# Altium schematic symbol library MCP1501_SOT-23.SchLib: 1 symbol
Pins are listed as number, name and electrical type; pins without a type are passive.

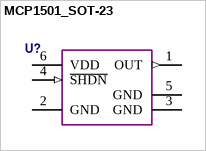
[diagram p0: symbol MCP1501_SOT-23]

## MCP1501_SOT-23
designator U?  (value not drawn)
2,5V Voltage References Precision, Buffered Voltage Reference
pins: 1 OUT (out), 2 GND (power), 3 GND (power), 4 ~{SHDN} (in), 5 GND (power), 6 VDD (power)